# Altium integrated library PCA9685PW.IntLib: 1 symbol
Pins are listed as number, name and electrical type; pins without a type are passive.

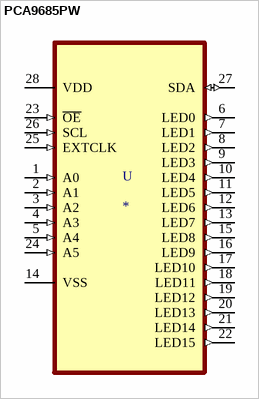
[diagram p0: symbol PCA9685PW]

## PCA9685PW
designator U
LED Driver IC 16 Output Linear PWM Dimming 25mA 28-TSSOP; MP: PCA9685PW; MF: NXP USA; SnapEDA_Link: https://www.snapeda.com/parts/PCA9685PW/NXP%20USA%20Inc./view-part/4219090/?ref=snap; Availability: Unavailable; Package: TSSOP-28 NXP USA; Price: None; Value: *
footprint SOP65P640X110-28N
pins: 1 A0 (in), 2 A1 (in), 3 A2 (in), 4 A3 (in), 5 A4 (in), 6 LED0 (out), 7 LED1 (out), 8 LED2 (out), 9 LED3 (out), 10 LED4 (out), 11 LED5 (out), 12 LED6 (out), 13 LED7 (out), 14 VSS, 15 LED8 (out), 16 LED9 (out), 17 LED10 (out), 18 LED11 (out), 19 LED12 (out), 20 LED13 (out), 21 LED14 (out), 22 LED15 (out), 23 ~{OE} (in), 24 A5 (in), 25 EXTCLK (in), 26 SCL (in), 27 SDA (io), 28 VDD (power)